# Altium schematic symbol library 36911600000.SchLib: 1 symbol
Pins are listed as number, name and electrical type; pins without a type are passive.

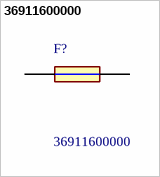
[diagram p0: symbol 36911600000]

## 36911600000
designator F?
LITTELFUSE - 36911600000 - FUSE, PCB, 1.6A, 300V, TIME DELAY; Geometry.Height: 8mm; Manufacturer_Name: LITTELFUSE; Manufacturer_Part_Number: 36911600000; Mouser Part Number: 576-36911600000; Mouser Price/Stock: https://www.mouser.co.uk/ProductDetail/Littelfuse/36911600000?qs=A0AD9A9uYPZw6RAiZRBT%252Bg%3D%3D; Arrow Part Number: 36911600000; Arrow Price/Stock: https://www.arrow.com/en/products/36911600000/littelfuse; Datasheet Link: https://www.littelfuse.com/data/en/data_sheets/littelfuse_fuse_369.pdf
footprint 36911600000
pins: 1, 2